# Altium footprint library conn_15_pcb.PcbLib: 1 footprints
Each footprint in its own frame and in the unit in brackets; x right, y up, seen from the top. Pads: shape width x height; smd on the part's side, far side on the other; paste and mask are expansions set on the pad; w line width, h text height; cw(c..) or ccw(c..) is an arc to the next point about the centre after c.
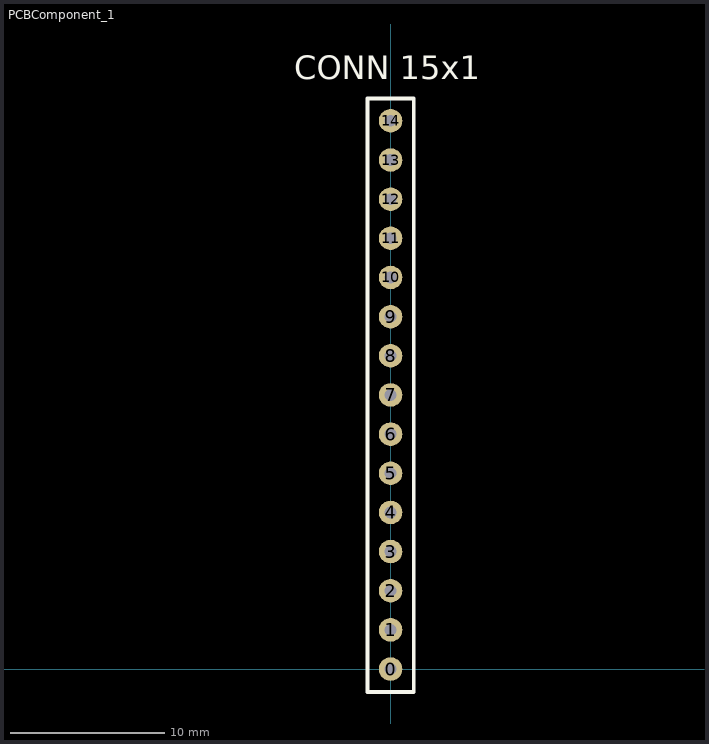
[diagram p0: the footprint, top view; thin cyan lines are the x and y axes]

## PCBComponent_1 [mil]
pads (15):
  round 60 hole 30: 0(0,0) 1(0,100) 2(0,200) 3(0,300) 4(0,400) 5(0,500) 6(0,600) 7(0,700) 8(0,800) 9(0,900) 10(0,1000) 11(0,1100) 12(0,1200) 13(0,1300) 14(0,1400)
Top Overlay:
  lines w10: -59.06,-59.06 -59.06,1456.69 59.06,1456.69 59.06,-59.06 -59.06,-59.06
  text "CONN 15x1" at -245.91,1506.06 h60